# Altium footprint library PcbLib1.PcbLib: 37 footprints (part 2 of 3)
Each footprint in its own frame and in the unit in brackets; x right, y up, seen from the top. Pads: shape width x height; smd on the part's side, far side on the other; paste and mask are expansions set on the pad; w line width, h text height; cw(c..) or ccw(c..) is an arc to the next point about the centre after c.
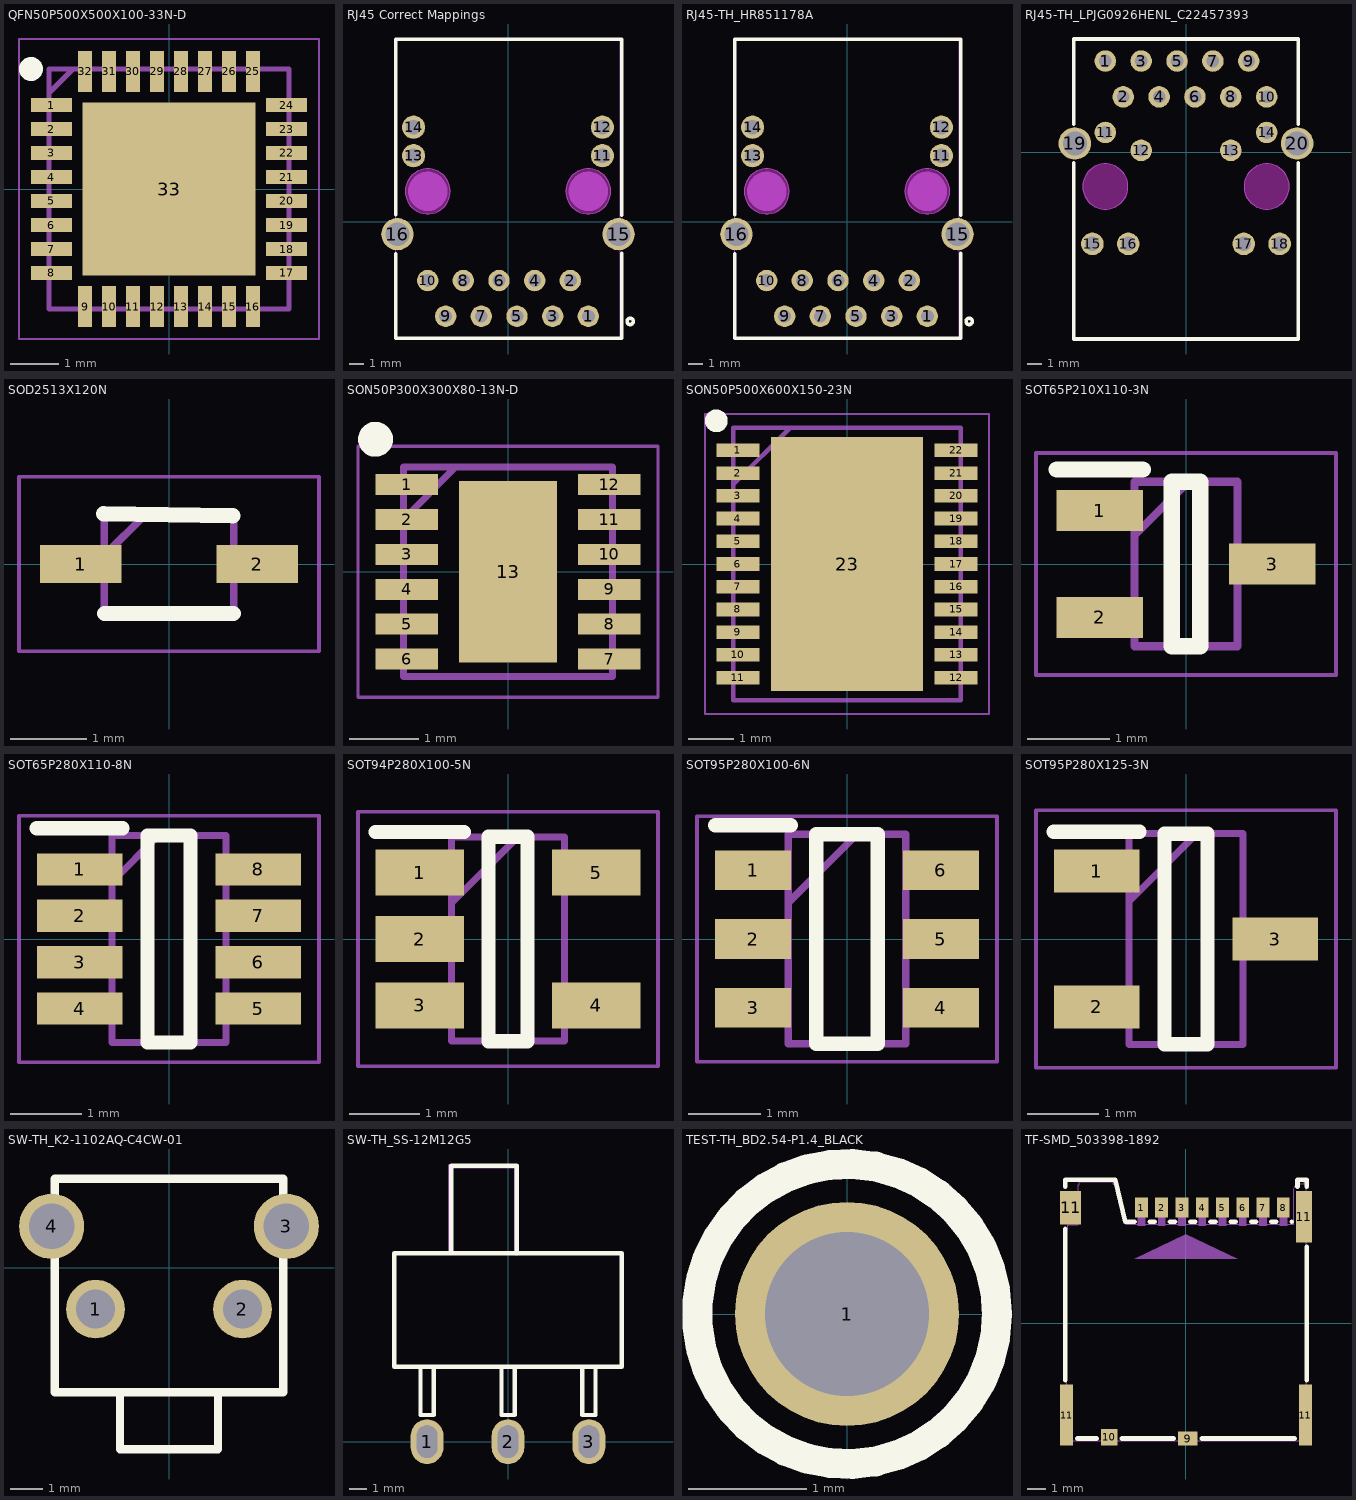
[diagram p1: the footprints below, top view; thin cyan lines are the x and y axes]

## QFN50P500X500X100-33N-D [mm]
pads (33):
  rect 0.85x0.3 smd: 1(-2.45,1.75) 2(-2.45,1.25) 3(-2.45,0.75) 4(-2.45,0.25) 5(-2.45,-0.25) 6(-2.45,-0.75) 7(-2.45,-1.25) 8(-2.45,-1.75) 17(2.45,-1.75) 18(2.45,-1.25) 19(2.45,-0.75) 20(2.45,-0.25) 21(2.45,0.25) 22(2.45,0.75) 23(2.45,1.25) 24(2.45,1.75)
  rect 0.3x0.85 smd: 9(-1.75,-2.45) 10(-1.25,-2.45) 11(-0.75,-2.45) 12(-0.25,-2.45) 13(0.25,-2.45) 14(0.75,-2.45) 15(1.25,-2.45) 16(1.75,-2.45) 25(1.75,2.45) 26(1.25,2.45) 27(0.75,2.45) 28(0.25,2.45) 29(-0.25,2.45) 30(-0.75,2.45) 31(-1.25,2.45) 32(-1.75,2.45)
  rect 3.6x3.6 smd: 33(0,0)
Top Overlay:
  circle w0.25: c-2.875,2.5 r0.125
Mechanical 13:
  lines w0.1: -2.5,2 -2,2.5 ; -2.5,-2.5 -2.5,2.5 2.5,2.5 2.5,-2.5 -2.5,-2.5
Mechanical 15:
  lines w0.05: -3.125,-3.125 -3.125,3.125 3.125,3.125 3.125,-3.125 -3.125,-3.125
3D body "ST25R3916B-AQWT.stp": height 1, standoff 0, extent -2.55,-2.55 2.55,2.55

## RJ45 Correct Mappings [mil]
pads (16):
  round 60 hole 36 paste-99999 mask+1.97: 1(225.2,-264.96) 2(174.8,-164.96) 3(125.2,-264.96) 4(74.8,-164.96) 5(25.2,-264.96) 6(-25.2,-164.96) 7(-74.8,-264.96) 8(-125.2,-164.96) 9(-174.8,-264.96) 10(-225.2,-164.96)
  round 64.96 hole 41.34 paste-99999 mask+1.97: 11(264.76,185.04) 12(264.76,264.96) 13(-264.76,185.04) 14(-264.76,264.96)
  round 90.55 hole 66.93 paste-99999 mask+1.97: 15(310.04,-35.04) 16(-310.04,-35.04)
Top Overlay:
  circle w10: c342.52,-279.53 r8.8
  lines w10: -314.96,-89.19 -314.96,-326.77 318.9,-326.77 318.9,-88.69 ; -314.96,19.11 -314.96,511.81 318.9,511.81 318.9,18.61
Keep-Out Layer:
  board cut-out: 287.99,85.04 287.99,78.83 285.57,66.66 280.82,55.2 273.93,44.88 265.15,36.11 254.84,29.22 243.37,24.47 231.2,22.05 218.8,22.05 206.63,24.47 195.16,29.22 184.84,36.11 176.07,44.88 169.18,55.2 164.43,66.66 162.01,78.83 162.01,85.04 162.01,91.24 164.43,103.41 169.18,114.88 176.07,125.19 184.84,133.97 195.16,140.86 206.63,145.61 218.8,148.03 231.2,148.03 243.37,145.61 254.84,140.86 265.15,133.97 273.93,125.19 280.82,114.88 285.57,103.41 287.99,91.24
  board cut-out: -162.01,85.04 -162.01,78.84 -164.43,66.67 -169.18,55.2 -176.07,44.88 -184.84,36.11 -195.16,29.22 -206.63,24.47 -218.8,22.05 -231.2,22.05 -243.37,24.47 -254.84,29.22 -265.15,36.11 -273.93,44.88 -280.82,55.2 -285.57,66.67 -287.99,78.84 -287.99,85.04 -287.99,91.24 -285.57,103.41 -280.82,114.88 -273.93,125.19 -265.15,133.97 -254.84,140.86 -243.37,145.61 -231.2,148.03 -218.8,148.03 -206.63,145.61 -195.16,140.86 -184.84,133.97 -176.07,125.19 -169.18,114.88 -164.43,103.41 -162.01,91.24
Keep-Out Layer:
  circle w1: c225,85.04 r62.99
  circle w1: c-225,85.04 r62.99
  region: 287.99,85.04 287.99,78.83 285.57,66.66 280.82,55.2 273.93,44.88 265.15,36.11 254.84,29.22 243.37,24.47 231.2,22.05 218.8,22.05 206.63,24.47 195.16,29.22 184.84,36.11 176.07,44.88 169.18,55.2 164.43,66.66 162.01,78.83 162.01,85.04 162.01,91.24 164.43,103.41 169.18,114.88 176.07,125.19 184.84,133.97 195.16,140.86 206.63,145.61 218.8,148.03 231.2,148.03 243.37,145.61 254.84,140.86 265.15,133.97 273.93,125.19 280.82,114.88 285.57,103.41 287.99,91.24
  region: -162.01,85.04 -162.01,78.84 -164.43,66.67 -169.18,55.2 -176.07,44.88 -184.84,36.11 -195.16,29.22 -206.63,24.47 -218.8,22.05 -231.2,22.05 -243.37,24.47 -254.84,29.22 -265.15,36.11 -273.93,44.88 -280.82,55.2 -285.57,66.67 -287.99,78.84 -287.99,85.04 -287.99,91.24 -285.57,103.41 -280.82,114.88 -273.93,125.19 -265.15,133.97 -254.84,140.86 -243.37,145.61 -231.2,148.03 -218.8,148.03 -206.63,145.61 -195.16,140.86 -184.84,133.97 -176.07,125.19 -169.18,114.88 -164.43,103.41 -162.01,91.24
Mechanical 1:
  circle w1: c225,85.04 r62.99
  circle w1: c-225,85.04 r62.99
Mechanical 6:
  circle w55.12: c-225,85.04 r27.56
  circle w55.12: c225,85.04 r27.56
Mechanical 15:
  region: 213.38,-261.02 237.01,-261.02 237.01,-268.9 213.38,-268.9
  region: 162.99,-161.02 186.61,-161.02 186.61,-168.9 162.99,-168.9
  region: 113.39,-261.02 137.01,-261.02 137.01,-268.9 113.39,-268.9
  region: 62.99,-161.02 86.61,-161.02 86.61,-168.9 62.99,-168.9
  region: 13.38,-261.02 37.01,-261.02 37.01,-268.9 13.38,-268.9
  region: -37.01,-161.02 -13.39,-161.02 -13.39,-168.9 -37.01,-168.9
  region: -86.61,-261.02 -62.99,-261.02 -62.99,-268.9 -86.61,-268.9
  region: -137.01,-161.02 -113.39,-161.02 -113.39,-168.9 -137.01,-168.9
  region: -186.62,-261.02 -162.99,-261.02 -162.99,-268.9 -186.62,-268.9
  region: -237.01,-161.02 -213.39,-161.02 -213.39,-168.9 -237.01,-168.9
  region: 252.95,188.98 276.57,188.98 276.57,181.1 252.95,181.1
  region: 252.95,268.9 276.57,268.9 276.57,261.02 252.95,261.02
  region: -276.57,188.98 -252.95,188.98 -252.95,181.1 -276.57,181.1
  region: -276.57,268.9 -252.95,268.9 -252.95,261.02 -276.57,261.02
  region: 304.13,-11.42 315.94,-11.42 315.94,-58.66 304.13,-58.66
  region: -315.94,-11.42 -304.13,-11.42 -304.13,-58.66 -315.94,-58.66
  region: 318.31,-326.38 318.31,-327.36 316.92,-328.74 314.97,-328.74 313.58,-327.36 313.58,-326.38 313.58,-325.4 314.97,-324.02 316.92,-324.02 318.31,-325.4
  lines w2: -314.96,-326.38 314.96,-326.38 314.96,512.21 -314.96,512.21 -314.96,-326.38

## RJ45-TH_HR851178A [mil]
pads (16):
  round 60 hole 36 paste-99999 mask+1.97: 1(225.2,-264.96) 2(174.8,-164.96) 3(125.2,-264.96) 4(74.8,-164.96) 5(25.2,-264.96) 6(-25.2,-164.96) 7(-74.8,-264.96) 8(-125.2,-164.96) 9(-174.8,-264.96) 10(-225.2,-164.96)
  round 64.96 hole 41.34 paste-99999 mask+1.97: 11(264.76,185.04) 12(264.76,264.96) 13(-264.76,185.04) 14(-264.76,264.96)
  round 90.55 hole 66.93 paste-99999 mask+1.97: 15(310.04,-35.04) 16(-310.04,-35.04)
Top Overlay:
  circle w10: c342.52,-279.53 r8.8
  lines w10: -314.96,-89.19 -314.96,-326.77 318.9,-326.77 318.9,-88.69 ; -314.96,19.11 -314.96,511.81 318.9,511.81 318.9,18.61
Keep-Out Layer:
  board cut-out: -162.01,85.04 -162.01,78.84 -164.43,66.67 -169.18,55.2 -176.07,44.88 -184.84,36.11 -195.16,29.22 -206.63,24.47 -218.8,22.05 -231.2,22.05 -243.37,24.47 -254.84,29.22 -265.15,36.11 -273.93,44.88 -280.82,55.2 -285.57,66.67 -287.99,78.84 -287.99,85.04 -287.99,91.24 -285.57,103.41 -280.82,114.88 -273.93,125.19 -265.15,133.97 -254.84,140.86 -243.37,145.61 -231.2,148.03 -218.8,148.03 -206.63,145.61 -195.16,140.86 -184.84,133.97 -176.07,125.19 -169.18,114.88 -164.43,103.41 -162.01,91.24
  board cut-out: 287.99,85.04 287.99,78.83 285.57,66.66 280.82,55.2 273.93,44.88 265.15,36.11 254.84,29.22 243.37,24.47 231.2,22.05 218.8,22.05 206.63,24.47 195.16,29.22 184.84,36.11 176.07,44.88 169.18,55.2 164.43,66.66 162.01,78.83 162.01,85.04 162.01,91.24 164.43,103.41 169.18,114.88 176.07,125.19 184.84,133.97 195.16,140.86 206.63,145.61 218.8,148.03 231.2,148.03 243.37,145.61 254.84,140.86 265.15,133.97 273.93,125.19 280.82,114.88 285.57,103.41 287.99,91.24
Keep-Out Layer:
  circle w1: c-225,85.04 r62.99
  circle w1: c225,85.04 r62.99
  region: -162.01,85.04 -162.01,78.84 -164.43,66.67 -169.18,55.2 -176.07,44.88 -184.84,36.11 -195.16,29.22 -206.63,24.47 -218.8,22.05 -231.2,22.05 -243.37,24.47 -254.84,29.22 -265.15,36.11 -273.93,44.88 -280.82,55.2 -285.57,66.67 -287.99,78.84 -287.99,85.04 -287.99,91.24 -285.57,103.41 -280.82,114.88 -273.93,125.19 -265.15,133.97 -254.84,140.86 -243.37,145.61 -231.2,148.03 -218.8,148.03 -206.63,145.61 -195.16,140.86 -184.84,133.97 -176.07,125.19 -169.18,114.88 -164.43,103.41 -162.01,91.24
  region: 287.99,85.04 287.99,78.83 285.57,66.66 280.82,55.2 273.93,44.88 265.15,36.11 254.84,29.22 243.37,24.47 231.2,22.05 218.8,22.05 206.63,24.47 195.16,29.22 184.84,36.11 176.07,44.88 169.18,55.2 164.43,66.66 162.01,78.83 162.01,85.04 162.01,91.24 164.43,103.41 169.18,114.88 176.07,125.19 184.84,133.97 195.16,140.86 206.63,145.61 218.8,148.03 231.2,148.03 243.37,145.61 254.84,140.86 265.15,133.97 273.93,125.19 280.82,114.88 285.57,103.41 287.99,91.24
Mechanical 1:
  circle w1: c-225,85.04 r62.99
  circle w1: c225,85.04 r62.99
Mechanical 6:
  circle w55.12: c225,85.04 r27.56
  circle w55.12: c-225,85.04 r27.56
Mechanical 15:
  region: 318.31,-326.38 318.31,-327.36 316.92,-328.74 314.97,-328.74 313.58,-327.36 313.58,-326.38 313.58,-325.4 314.97,-324.02 316.92,-324.02 318.31,-325.4
  region: -315.94,-11.42 -304.13,-11.42 -304.13,-58.66 -315.94,-58.66
  region: 304.13,-11.42 315.94,-11.42 315.94,-58.66 304.13,-58.66
  region: -276.57,268.9 -252.95,268.9 -252.95,261.02 -276.57,261.02
  region: -276.57,188.98 -252.95,188.98 -252.95,181.1 -276.57,181.1
  region: 252.95,268.9 276.57,268.9 276.57,261.02 252.95,261.02
  region: 252.95,188.98 276.57,188.98 276.57,181.1 252.95,181.1
  region: -237.01,-161.02 -213.39,-161.02 -213.39,-168.9 -237.01,-168.9
  region: -186.62,-261.02 -162.99,-261.02 -162.99,-268.9 -186.62,-268.9
  region: -137.01,-161.02 -113.39,-161.02 -113.39,-168.9 -137.01,-168.9
  region: -86.61,-261.02 -62.99,-261.02 -62.99,-268.9 -86.61,-268.9
  region: -37.01,-161.02 -13.39,-161.02 -13.39,-168.9 -37.01,-168.9
  region: 13.38,-261.02 37.01,-261.02 37.01,-268.9 13.38,-268.9
  region: 62.99,-161.02 86.61,-161.02 86.61,-168.9 62.99,-168.9
  region: 113.39,-261.02 137.01,-261.02 137.01,-268.9 113.39,-268.9
  region: 162.99,-161.02 186.61,-161.02 186.61,-168.9 162.99,-168.9
  region: 213.38,-261.02 237.01,-261.02 237.01,-268.9 213.38,-268.9
  lines w2: -314.96,-326.38 -314.96,512.21 314.96,512.21 314.96,-326.38 -314.96,-326.38

## RJ45-TH_LPJG0926HENL_C22457393 [mil]
pads (20):
  round 60 hole 35.43 paste-99999 mask+1.97: 1(-225,254.93) 2(-175,154.93) 3(-125,254.93) 4(-75,154.93) 5(-25,254.93) 6(25,154.93) 7(75,254.93) 8(125,154.93) 9(175,254.93) 10(225,154.93) 11(-225,55.71) 12(-125,5.71) 13(125,5.71) 14(225,55.71)
  round 62.99 hole 40.16 paste-99999 mask+1.97: 15(-261.02,-254.92) 16(-161.03,-254.92) 17(161.02,-254.92) 18(261.02,-254.92)
  round 90.55 hole 66.93 paste-99999 mask+1.97: 19(-310.04,25) 20(310.04,25)
Top Overlay:
  lines w10: -313.58,-29.26 -313.58,-520.27 313.58,-520.27 313.58,-29.26 ; -313.58,79.26 -313.58,316.34 313.58,316.34 313.58,79.26
Keep-Out Layer:
  board cut-out: -162.01,-95.08 -162.01,-101.28 -164.43,-113.45 -169.18,-124.92 -176.08,-135.23 -184.85,-144.01 -195.17,-150.9 -206.63,-155.65 -218.8,-158.07 -231.21,-158.07 -243.38,-155.65 -254.84,-150.9 -265.16,-144.01 -273.94,-135.23 -280.83,-124.92 -285.58,-113.45 -288,-101.28 -288,-95.08 -288,-88.87 -285.58,-76.7 -280.83,-65.24 -273.94,-54.92 -265.16,-46.15 -254.84,-39.26 -243.38,-34.51 -231.21,-32.09 -218.8,-32.09 -206.63,-34.51 -195.17,-39.26 -184.85,-46.15 -176.08,-54.92 -169.18,-65.24 -164.43,-76.7 -162.01,-88.87
  board cut-out: 287.99,-95.08 287.99,-101.28 285.57,-113.45 280.82,-124.92 273.92,-135.23 265.15,-144.01 254.83,-150.9 243.37,-155.65 231.2,-158.07 218.79,-158.07 206.62,-155.65 195.16,-150.9 184.84,-144.01 176.06,-135.23 169.17,-124.92 164.42,-113.45 162,-101.28 162,-95.08 162,-88.87 164.42,-76.7 169.17,-65.24 176.06,-54.92 184.84,-46.15 195.16,-39.26 206.62,-34.51 218.79,-32.09 231.2,-32.09 243.37,-34.51 254.83,-39.26 265.15,-46.15 273.92,-54.92 280.82,-65.24 285.57,-76.7 287.99,-88.87
Keep-Out Layer:
  circle w1: c-225.01,-95.08 r62.99
  circle w1: c224.99,-95.08 r62.99
  region: -162.01,-95.08 -162.01,-101.28 -164.43,-113.45 -169.18,-124.92 -176.08,-135.23 -184.85,-144.01 -195.17,-150.9 -206.63,-155.65 -218.8,-158.07 -231.21,-158.07 -243.38,-155.65 -254.84,-150.9 -265.16,-144.01 -273.94,-135.23 -280.83,-124.92 -285.58,-113.45 -288,-101.28 -288,-95.08 -288,-88.87 -285.58,-76.7 -280.83,-65.24 -273.94,-54.92 -265.16,-46.15 -254.84,-39.26 -243.38,-34.51 -231.21,-32.09 -218.8,-32.09 -206.63,-34.51 -195.17,-39.26 -184.85,-46.15 -176.08,-54.92 -169.18,-65.24 -164.43,-76.7 -162.01,-88.87
  region: 287.99,-95.08 287.99,-101.28 285.57,-113.45 280.82,-124.92 273.92,-135.23 265.15,-144.01 254.83,-150.9 243.37,-155.65 231.2,-158.07 218.79,-158.07 206.62,-155.65 195.16,-150.9 184.84,-144.01 176.06,-135.23 169.17,-124.92 164.42,-113.45 162,-101.28 162,-95.08 162,-88.87 164.42,-76.7 169.17,-65.24 176.06,-54.92 184.84,-46.15 195.16,-39.26 206.62,-34.51 218.79,-32.09 231.2,-32.09 243.37,-34.51 254.83,-39.26 265.15,-46.15 273.92,-54.92 280.82,-65.24 285.57,-76.7 287.99,-88.87
Mechanical 1:
  circle w1: c-225.01,-95.08 r62.99
  circle w1: c224.99,-95.08 r62.99

## SOD2513X120N [mm]
pads (2):
  rect 1.075x0.5 smd: 1(-1.162,0) 2(1.162,0)
Top Overlay:
  lines w0.2: -0.864,0.66 0.838,0.635 ; -0.85,-0.65 0.85,-0.65
Mechanical 13:
  lines w0.1: -0.85,0.112 -0.312,0.65 ; -0.85,-0.65 0.85,-0.65 0.85,0.65 -0.85,0.65 -0.85,-0.65
Mechanical 15:
  lines w0.05: -1.975,-1.15 1.975,-1.15 1.975,1.15 -1.975,1.15 -1.975,-1.15
3D body "B0520WS-7-F.stp": height 1.2, standoff 0, extent -1.25,-0.65 1.25,0.65

## SON50P300X300X80-13N-D [mm]
pads (13):
  rect 0.9x0.3 smd: 1(-1.45,1.25) 2(-1.45,0.75) 3(-1.45,0.25) 4(-1.45,-0.25) 5(-1.45,-0.75) 6(-1.45,-1.25) 7(1.45,-1.25) 8(1.45,-0.75) 9(1.45,-0.25) 10(1.45,0.25) 11(1.45,0.75) 12(1.45,1.25)
  rect 1.4x2.6 smd: 13(0,0)
Top Overlay:
  circle w0.25: c-1.9,1.9 r0.125
Mechanical 13:
  lines w0.1: -1.5,0.75 -0.75,1.5 ; -1.5,-1.5 -1.5,1.5 1.5,1.5 1.5,-1.5 -1.5,-1.5
Mechanical 15:
  lines w0.05: -2.15,-1.8 -2.15,1.8 2.15,1.8 2.15,-1.8 -2.15,-1.8
3D body "LM74810QDRRRQ1.stp": height 0.8, standoff 0, extent -1.5,-1.5 1.5,1.5

## SON50P500X600X150-23N [mm]
pads (23):
  rect 0.95x0.3 smd: 1(-2.4,2.5) 2(-2.4,2) 3(-2.4,1.5) 4(-2.4,1) 5(-2.4,0.5) 6(-2.4,0) 7(-2.4,-0.5) 8(-2.4,-1) 9(-2.4,-1.5) 10(-2.4,-2) 11(-2.4,-2.5) 12(2.4,-2.5) 13(2.4,-2) 14(2.4,-1.5) 15(2.4,-1) 16(2.4,-0.5) 17(2.4,0) 18(2.4,0.5) 19(2.4,1) 20(2.4,1.5) 21(2.4,2) 22(2.4,2.5)
  rect 3.34x5.579 smd: 23(0,0)
Top Overlay:
  circle w0.25: c-2.875,3.15 r0.125
Mechanical 13:
  lines w0.1: -2.5,1.75 -1.25,3 ; -2.5,-3 -2.5,3 2.5,3 2.5,-3 -2.5,-3
Mechanical 15:
  lines w0.05: -3.125,-3.3 -3.125,3.3 3.125,3.3 3.125,-3.3 -3.125,-3.3
3D body "TPS53318DQPR.stp": height 1.5, standoff 0, extent -2.5,-3 2.5,3

## SOT65P210X110-3N [mm]
pads (3):
  rect 1.05x0.5 smd: 1(-1.05,0.65) 2(-1.05,-0.65) 3(1.05,0)
Top Overlay:
  lines w0.2: -1.575,1.15 -0.525,1.15 ; -0.175,-1 -0.175,1 0.175,1 0.175,-1 -0.175,-1
Mechanical 13:
  lines w0.1: -0.625,0.35 0.025,1 ; -0.625,-1 -0.625,1 0.625,1 0.625,-1 -0.625,-1
Mechanical 15:
  lines w0.05: -1.825,-1.35 -1.825,1.35 1.825,1.35 1.825,-1.35 -1.825,-1.35
3D body "ESDA25W.stp": height 1.1, standoff 0, extent -1.05,-1 1.05,1

## SOT65P280X110-8N [mm]
pads (8):
  rect 1.2x0.45 smd: 1(-1.25,0.975) 2(-1.25,0.325) 3(-1.25,-0.325) 4(-1.25,-0.975) 5(1.25,-0.975) 6(1.25,-0.325) 7(1.25,0.325) 8(1.25,0.975)
Top Overlay:
  lines w0.2: -1.85,1.55 -0.65,1.55 ; -0.3,-1.45 -0.3,1.45 0.3,1.45 0.3,-1.45 -0.3,-1.45
Mechanical 13:
  lines w0.1: -0.8,0.8 -0.15,1.45 ; -0.8,-1.45 -0.8,1.45 0.8,1.45 0.8,-1.45 -0.8,-1.45
Mechanical 15:
  lines w0.05: -2.1,-1.725 -2.1,1.725 2.1,1.725 2.1,-1.725 -2.1,-1.725
3D body "LM74502HDDFR.stp": height 0.9, standoff 0, extent -1.41,-1.45 1.41,1.45

## SOT94P280X100-5N [mm]
pads (5):
  rect 1.25x0.65 smd: 1(-1.25,0.94) 2(-1.25,0) 3(-1.25,-0.94) 4(1.25,-0.94) 5(1.25,0.94)
Top Overlay:
  lines w0.2: -1.875,1.514 -0.625,1.514 ; -0.275,-1.448 -0.275,1.448 0.275,1.448 0.275,-1.448 -0.275,-1.448
Mechanical 13:
  lines w0.1: -0.8,0.508 0.14,1.448 ; -0.8,-1.448 -0.8,1.448 0.8,1.448 0.8,-1.448 -0.8,-1.448
Mechanical 15:
  lines w0.05: -2.125,-1.8 -2.125,1.8 2.125,1.8 2.125,-1.8 -2.125,-1.8
3D body "RT9742GGJ5.stp": height 1, standoff 0, extent -1.398,-1.448 1.398,1.448

## SOT95P280X100-6N [mm]
pads (6):
  rect 1.05x0.55 smd: 1(-1.3,0.95) 2(-1.3,0) 3(-1.3,-0.95) 4(1.3,-0.95) 5(1.3,0) 6(1.3,0.95)
Top Overlay:
  lines w0.2: -1.825,1.575 -0.775,1.575 ; -0.425,-1.45 -0.425,1.45 0.425,1.45 0.425,-1.45 -0.425,-1.45
Mechanical 13:
  lines w0.1: -0.812,0.5 0.138,1.45 ; -0.812,-1.45 -0.812,1.45 0.812,1.45 0.812,-1.45 -0.812,-1.45
Mechanical 15:
  lines w0.05: -2.075,-1.7 -2.075,1.7 2.075,1.7 2.075,-1.7 -2.075,-1.7
3D body "LTC4412ES6#TRMPBF.stp": height 1, standoff 0, extent -1.4,-1.44 1.4,1.46

## SOT95P280X125-3N [mm]
pads (3):
  rect 1.2x0.6 smd: 1(-1.25,0.95) 2(-1.25,-0.95) 3(1.25,0)
Top Overlay:
  lines w0.2: -1.85,1.5 -0.65,1.5 ; -0.3,-1.475 -0.3,1.475 0.3,1.475 0.3,-1.475 -0.3,-1.475
Mechanical 13:
  lines w0.1: -0.8,0.525 0.15,1.475 ; -0.8,-1.475 -0.8,1.475 0.8,1.475 0.8,-1.475 -0.8,-1.475
Mechanical 15:
  lines w0.05: -2.1,-1.8 -2.1,1.8 2.1,1.8 2.1,-1.8 -2.1,-1.8
3D body "AO3400A.stp": height 1.25, standoff 0, extent -1.4,-1.475 1.4,1.475

## SW-TH_K2-1102AQ-C4CW-01 [mm]
pads (4):
  round 1.8 hole 1.2 paste-2539.97 mask+0.051: 1(-2.25,-1.27) 2(2.25,-1.27)
  round 2 hole 1.4 paste-2539.97 mask+0.051: 3(3.599,1.27) 4(-3.599,1.27)
Top Overlay:
  lines w0.254: -1.5,-3.82 -1.5,-5.57 1.5,-5.57 1.5,-3.82 ; -3.5,-3.82 -3.5,2.73 3.5,2.73 3.5,-3.82 -3.5,-3.82

## SW-TH_SS-12M12G5 [mm]
pads (3):
  oval 1.9x2.6 hole 1.2 slot 1.9 at 90 deg paste-2539.97 mask+0.05: 1(-4.7,0) 2(0,0) 3(4.7,0)
Top Overlay:
  lines w0.254: -3.302,10.945 0.508,10.945 ; -3.302,10.945 -6.604,10.945 -6.604,4.341 6.604,4.341 6.604,10.945 0.508,10.945 ; -3.302,10.945 -3.302,16.025 0.508,16.025 0.508,10.945 ; -5.08,1.547 -4.318,1.547 -4.318,4.341 -5.08,4.341 -5.08,1.547 ; -0.38,1.547 0.382,1.547 0.382,4.341 -0.38,4.341 -0.38,1.547 ; 4.32,1.547 5.082,1.547 5.082,4.341 4.32,4.341 4.32,1.547
Mechanical 15:
  region: -3.477,11 -3.477,16 -3.477,16.025 -3.458,16.072 -3.422,16.108 -3.375,16.127 -3.35,16.127 0.5,16.127 0.525,16.127 0.572,16.108 0.608,16.072 0.627,16.025 0.627,16 0.627,10.95 0.627,10.897 0.553,10.823 0.447,10.823 0.373,10.897 0.373,10.95 0.373,15.873 -3.223,15.873 -3.223,11 -3.223,10.947 -3.297,10.873 -3.403,10.873 -3.477,10.947

## TEST-TH_BD2.54-P1.4_BLACK [mm]
pads (1):
  round 1.9 hole 1.39 paste-2539.97 mask+0.051: 1(0,0)
Top Overlay:
  circle w0.254: c0,0 r1.27

## TF-SMD_503398-1892 [mm]
pads (14):
  rect 0.7x1.1 smd: 1(-2.42,6.27) 2(-1.32,6.27) 3(-0.22,6.27) 4(0.88,6.27) 5(1.98,6.27) 6(3.08,6.27) 7(4.18,6.27) 8(5.28,6.27)
  rect 1.05x0.78 smd: 9(0.095,-6.27)
  rect 0.9x0.9 smd: 10(-4.17,-6.21)
  rect 0.7x3.33 smd: 11(-6.48,-4.995) 11(6.48,-4.995)
  rect 1.14x1.83 smd: 11(-6.26,6.255)
  rect 0.86x2.8 smd: 11(6.4,5.77)
Top Overlay:
  lines w0.254: -6.55,-3.099 -6.55,5.109 ; -6.55,7.401 -6.55,7.78 -3.85,7.78 -3.3,5.5 -2.795,5.5 ; -5.899,-6.27 -4.851,-6.27 ; -3.489,-6.27 -1.1,-6.27 -0.661,-6.27 ; -1.965,5.5 -1.695,5.5 ; -0.865,5.5 -0.595,5.5 ; 0.235,5.5 0.505,5.5 ; 0.851,-6.27 0.935,-6.27 5.899,-6.27 ; 1.335,5.5 1.605,5.5 ; 2.435,5.5 2.705,5.5 ; 3.535,5.5 3.805,5.5 ; 4.635,5.5 4.905,5.5 ; 5.735,5.5 5.739,5.5 ; 6.05,7.401 6.05,7.78 6.55,7.78 6.55,7.401 ; 6.55,-3.099 6.55,4.139
Mechanical 6:
  region: 2.794,3.492 -2.794,3.493 0,4.826
Mechanical 15:
  drawing of 58 lines, arcs and shapes, not listed